# Altium schematic symbol library Schlib.SchLib: 1 symbol
Pins are listed as number, name and electrical type; pins without a type are passive.

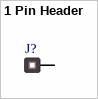
[diagram p0: symbol 1 Pin Header]

## 1 Pin Header
designator J?  (value not drawn)
1 Pin Header - Plated Through Hole TestPoint
footprint 1 Pin Header (1 Pin Header - Plated Through Hole TestPoint)
pins: 1